# EAGLE library part 749022011 (library WE-PP_TRANSFORMER)
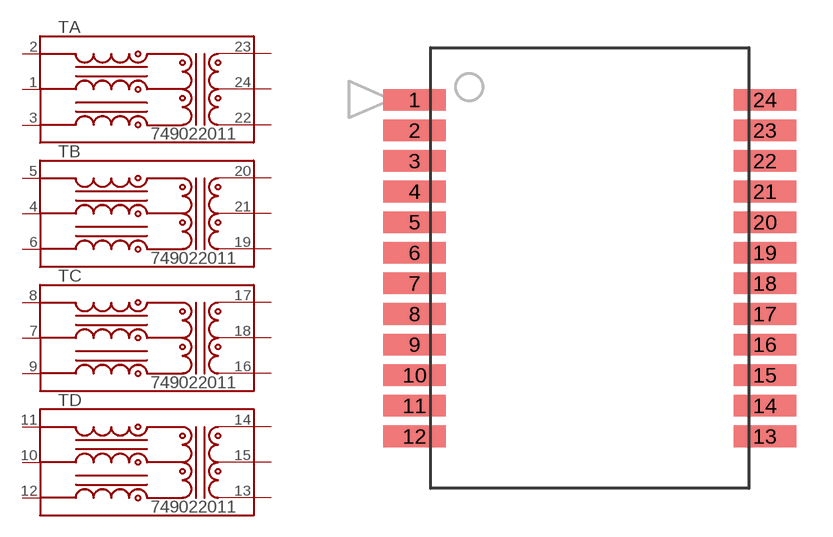
[diagram p5: symbol with the pads of 749022011; footprint 749022011]

Designator prefix T; gates A=749022011-1OF4 B=749022011-1OF4 C=749022011-1OF4 D=749022011-1OF4

## 749022011 (MF: Wurth Electronik; MPN: 749022011)  [749022011]
1  A:ACT
2  A:ADOT
3  A:A
4  B:ACT
5  B:ADOT
6  B:A
7  C:ACT
8  C:ADOT
9  C:A
10  D:ACT
11  D:ADOT
12  D:A
13  D:B
14  D:BDOT
15  D:BCT
16  C:B
17  C:BDOT
18  C:BCT
19  B:B
20  B:BDOT
21  B:BCT
22  A:B
23  A:BDOT
24  A:BCT

## Footprint 749022011 (pad centres in mm)
smd 2.6 x 0.9: 1 -7.265,6.985; 2 -7.265,5.715; 3 -7.265,4.445; 4 -7.265,3.175; 5 -7.265,1.905; 6 -7.265,0.635; 7 -7.265,-0.635; 8 -7.265,-1.905; 9 -7.265,-3.175; 10 -7.265,-4.445; 11 -7.265,-5.715; 12 -7.265,-6.985; 13 7.265,-6.985; 14 7.265,-5.715; 15 7.265,-4.445; 16 7.265,-3.175; 17 7.265,-1.905; 18 7.265,-0.635; 19 7.265,0.635; 20 7.265,1.905; 21 7.265,3.175; 22 7.265,4.445; 23 7.265,5.715; 24 7.265,6.985